# Altium footprint library testpoints.PcbLib: 2 footprints
Each footprint in its own frame and in the unit in brackets; x right, y up, seen from the top. Pads: shape width x height; smd on the part's side, far side on the other; paste and mask are expansions set on the pad; w line width, h text height; cw(c..) or ccw(c..) is an arc to the next point about the centre after c.
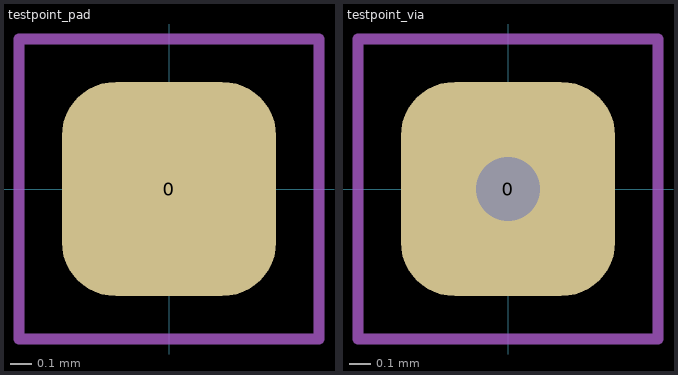
[diagram p0: the footprints below, top view; thin cyan lines are the x and y axes]

## testpoint_pad [mm]
pads (1):
  rrect50% 1x1 smd: 0(0,0)
Mechanical 15:
  lines w0.05: -0.7,-0.7 -0.7,0.7 0.7,0.7 0.7,-0.7 -0.7,-0.7

## testpoint_via [mm] "top & bottom testpoint with a via"
pads (1):
  rrect50% 1x1 hole 0.3: 0(0,0)
Top Overlay:
  text ".Designator" at 0.267,0.75 h0.8
Bottom Overlay:
  text ".Designator" at 0.267,8.747 h0.8
Mechanical 15:
  lines w0.05: -0.7,-0.7 0.7,-0.7 0.7,0.7 -0.7,0.7 -0.7,-0.7